# Altium integrated library SPMWHT541MH7WAPKSB.IntLib: 1 symbol
Pins are listed as number, name and electrical type; pins without a type are passive.

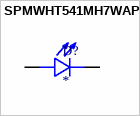
[diagram p0: symbol SPMWHT541MH7WAPKSB]

## SPMWHT541MH7WAPKSB
designator D?
LED LM561B PLUS WHITE 5630; MF: Samsung Semiconductor, Inc.; MP: SPMWHT541MH7WAPKSB; SnapEDA_Link: https://www.snapeda.com/parts/SPMWHT541MH7WAPKSB/Samsung+Semiconductor%252C+Inc./view-part/?ref=snap; Package: None; Value: *; Check_prices: https://www.snapeda.com/parts/SPMWHT541MH7WAPKSB/Samsung+Semiconductor%252C+Inc./view-part/?ref=eda
footprint LED_SPMWHT541MH7WAPKSB
pins: A, C